# EAGLE library part LM3488 (library CasaLibrary)
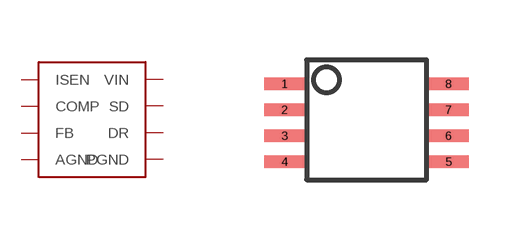
[diagram p26: symbol with the pads of S-PDSO-G8; footprint S-PDSO-G8]

Designator prefix -

## LM3488  [S-PDSO-G8]
1  ISEN
2  COMP
3  FB
4  AGND
5  PGND
6  DR
7  SD
8  VIN

## Footprint S-PDSO-G8 (pad centres in mm)
smd 1 x 0.305: 1 -0.55,-0.6; 2 -0.55,-1.25; 3 -0.55,-1.9; 4 -0.55,-2.55; 5 3.55,-2.55; 6 3.55,-1.9; 7 3.55,-1.25; 8 3.55,-0.6